# EAGLE library part BMP280 (library BMP280)
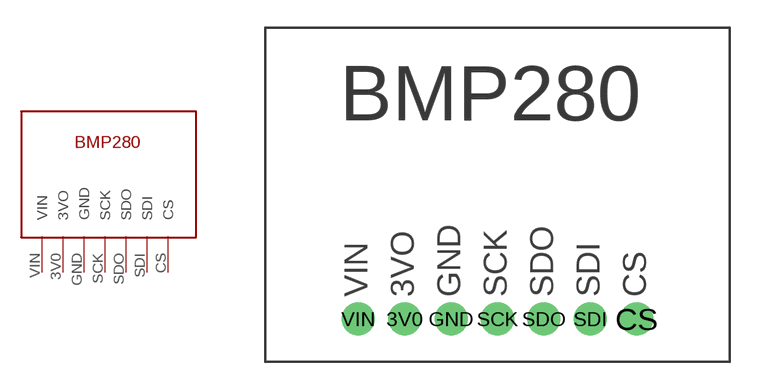
[diagram p0: symbol with the pads of BMP280; footprint BMP280]

Designator prefix -

## BMP280  [BMP280]
3V0  3VO
CS  CS
GND  GND
SCK  SCK
SDI  SDI
SDO  SDO
VIN  VIN

## Footprint BMP280 (pad centres in mm)
drill 0.8 pad 1.778: 3V0 7.5,2.3; CS 20,2.3; GND 10,2.3; SCK 12.5,2.3; SDI 17.5,2.3; SDO 15,2.3; VIN 5,2.3